# EAGLE library part 75869-10 (library con-fci-quickie)
HEADER
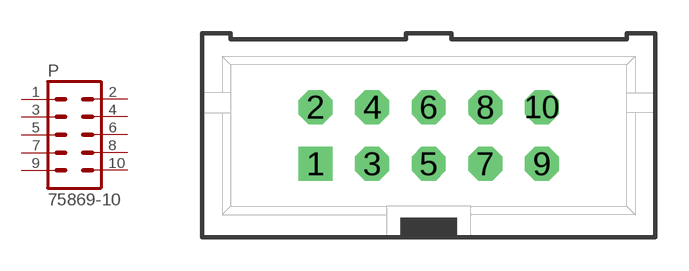
[diagram p2: symbol with the pads of 75869-10; footprint 75869-10]

Designator prefix P

## 75869-10  [75869-10]
1  1  pas
2  2  pas
3  3  pas
4  4  pas
5  5  pas
6  6  pas
7  7  pas
8  8  pas
9  9  pas
10  10  pas

## Footprint 75869-10 (pad centres in mm)
HEADER
drill 1.016 square: 1 -5.08,-1.27
drill 1.016 octagon: 2 -5.08,1.27; 3 -2.54,-1.27; 4 -2.54,1.27; 5 0,-1.27; 6 0,1.27; 7 2.54,-1.27; 8 2.54,1.27; 9 5.08,-1.27; 10 5.08,1.27